# Altium schematic symbol library FMMT619TA.SchLib: 1 symbol
Pins are listed as number, name and electrical type; pins without a type are passive.

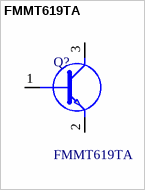
[diagram p0: symbol FMMT619TA]

## FMMT619TA
designator Q?
Diodes Inc FMMT619TA NPN Bipolar Transistor, 2 A, 50 V, 3-Pin SOT-23; Manufacturer_Name: Diodes Incorporated; Geometry.Height: 1.2mm; Mouser Part Number: 522-FMMT619TA; Mouser Price/Stock: https://www.mouser.co.uk/ProductDetail/Diodes-Incorporated/FMMT619TA?qs=Ly%2FNF0nuwQ%2FpsAMUAUdYFg%3D%3D; Manufacturer_Part_Number: FMMT619TA; Datasheet Link: https://www.diodes.com/assets/Datasheets/FMMT619.pdf
footprint SOT96P240X120-3N
pins: 1 B, 2 E, 3 C